# Altium integrated library MFR-25FRF52-100R.IntLib: 1 symbol
Pins are listed as number, name and electrical type; pins without a type are passive.

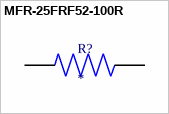
[diagram p0: symbol MFR-25FRF52-100R]

## MFR-25FRF52-100R
designator R?
100 Ohms Â±1% 0.25W, 1/4W Through Hole Resistor Axial Metal Film; MF: Yageo; MP: MFR-25FRF52-100R; Check_prices: https://www.snapeda.com/parts/MFR-25FRF52-100R/Yageo/view-part/3657249/?ref=eda; Purchase-URL: https://pricing.snapeda.com/search/part/MFR-25FRF52-100R/?ref=eda; Value: *; SnapEDA_Link: https://www.snapeda.com/parts/MFR-25FRF52-100R/Yageo/view-part/3657249/?ref=snap; Package: Axial Yageo; Price: None; Availability: Warning
footprint RESAD1100W55L680D260
pins: 1, 2